# EAGLE library part TL081CP (library TL081CP)
TL081CP, Operational Amplifier 3MHz, 8-Pin PDIP Source: Datasheet <http://www.ti.com/lit/ds/symlink/tl081a.pdf>
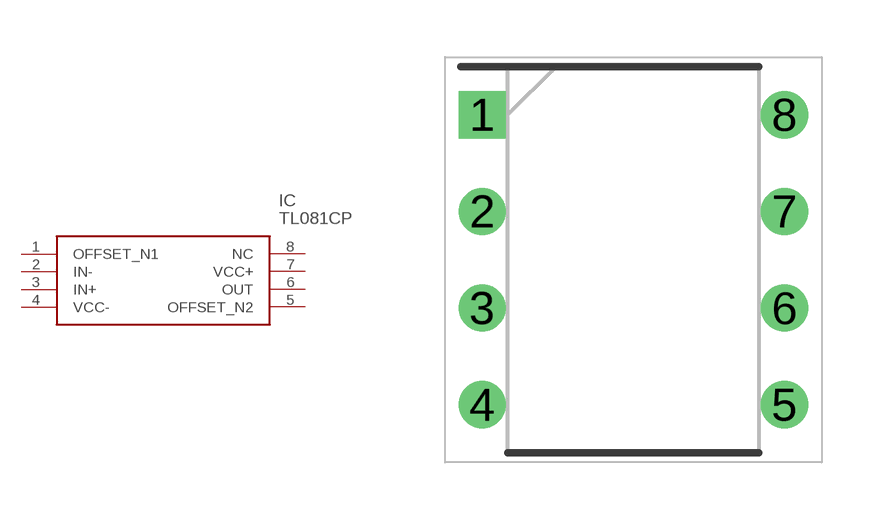
[diagram p0: symbol with the pads of DIP794W53P254L959H508Q8N; footprint DIP794W53P254L959H508Q8N]

Designator prefix IC

## TL081CP (Description: TL081CP, Operational Amplifier 3MHz, 8-Pin PDIP; Height: 5.08mm; Manufacturer_Name: Texas Instruments; Manufacturer_Part_Number: TL081CP; Mouser_Part_Number: 595-TL081CP; Mouser_Price-Stock: https://www.mouser.co.uk/ProductDetail/Texas-Instruments/TL081CP?qs=xJkDX%2FqrskP5SC31s4Mqdg%3D%3D)  [DIP794W53P254L959H508Q8N]
1  OFFSET_N1
2  IN-
3  IN+
4  VCC-
5  OFFSET_N2
6  OUT
7  VCC+
8  NC  nc

## Footprint DIP794W53P254L959H508Q8N (pad centres in mm)
P (R-PDIP-T8)
drill 0.73 pad 1.13 square: 1 -3.97,3.81
drill 0.73 pad 1.13: 2 -3.97,1.27; 3 -3.97,-1.27; 4 -3.97,-3.81; 5 3.97,-3.81; 6 3.97,-1.27; 7 3.97,1.27; 8 3.97,3.81